# EAGLE library part TOP_SCR+SPK (library dslparts)
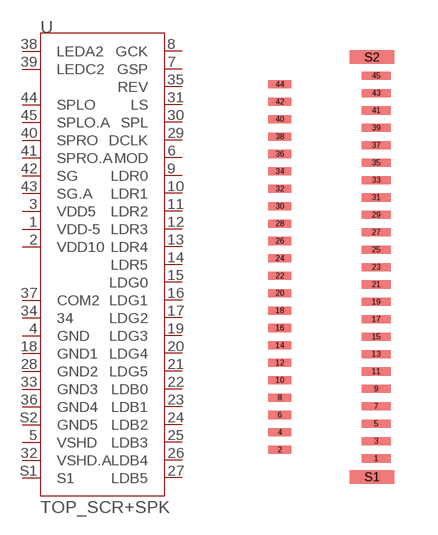
[diagram p14: symbol with the pads of TOP_SCR+SPK; footprint TOP_SCR+SPK]

Designator prefix -

## TOP_SCR+SPK  [TOP_SCR+SPK]
1  VDD-5
2  VDD10
3  VDD5
4  GND
5  VSHD
6  MOD
7  GSP
8  GCK
9  LDR0
10  LDR1
11  LDR2
12  LDR3
13  LDR4
14  LDR5
15  LDG0
16  LDG1
17  LDG2
18  GND1
19  LDG3
20  LDG4
21  LDG5
22  LDB0
23  LDB1
24  LDB2
25  LDB3
26  LDB4
27  LDB5
28  GND2
29  DCLK
30  SPL
31  LS
32  VSHD.A
33  GND3
34  34
35  REV
36  GND4
37  COM2
38  LEDA2
39  LEDC2
40  SPRO
41  SPRO.A
42  SG
43  SG.A
44  SPLO
45  SPLO.A
S1  S1
S2  GND5

## Footprint TOP_SCR+SPK (pad centres in mm)
smd 1.016 x 0.279: 1 2.053,-11.1; 3 2.053,-10.5; 5 2.053,-9.9; 7 2.053,-9.3; 9 2.053,-8.7; 11 2.053,-8.1; 13 2.053,-7.5; 15 2.053,-6.9; 17 2.053,-6.3; 19 2.053,-5.7; 21 2.053,-5.1; 23 2.053,-4.5; 25 2.053,-3.9; 27 2.053,-3.3; 29 2.053,-2.7; 31 2.053,-2.1; 33 2.053,-1.5; 35 2.053,-0.9; 37 2.053,-0.3; 39 2.053,0.3; 41 2.053,0.9; 43 2.053,1.5; 45 2.053,2.1
smd 0.787 x 0.279: 2 -1.27,-10.8; 4 -1.27,-10.2; 6 -1.27,-9.6; 8 -1.27,-9; 10 -1.27,-8.4; 12 -1.27,-7.8; 14 -1.27,-7.2; 16 -1.27,-6.6; 18 -1.27,-6; 20 -1.27,-5.4; 22 -1.27,-4.8; 24 -1.27,-4.2; 26 -1.27,-3.6; 28 -1.27,-3; 30 -1.27,-2.4; 32 -1.27,-1.8; 34 -1.27,-1.2; 36 -1.27,-0.6; 38 -1.27,0; 40 -1.27,0.6; 42 -1.27,1.2; 44 -1.27,1.8
smd 1.524 x 0.457: S1 1.905,-11.735; S2 1.905,2.74